# Altium footprint library 0.PCB1.PcbLib: 62 footprints (part 1 of 4)
Each footprint in its own frame and in the unit in brackets; x right, y up, seen from the top. Pads: shape width x height; smd on the part's side, far side on the other; paste and mask are expansions set on the pad; w line width, h text height; cw(c..) or ccw(c..) is an arc to the next point about the centre after c.
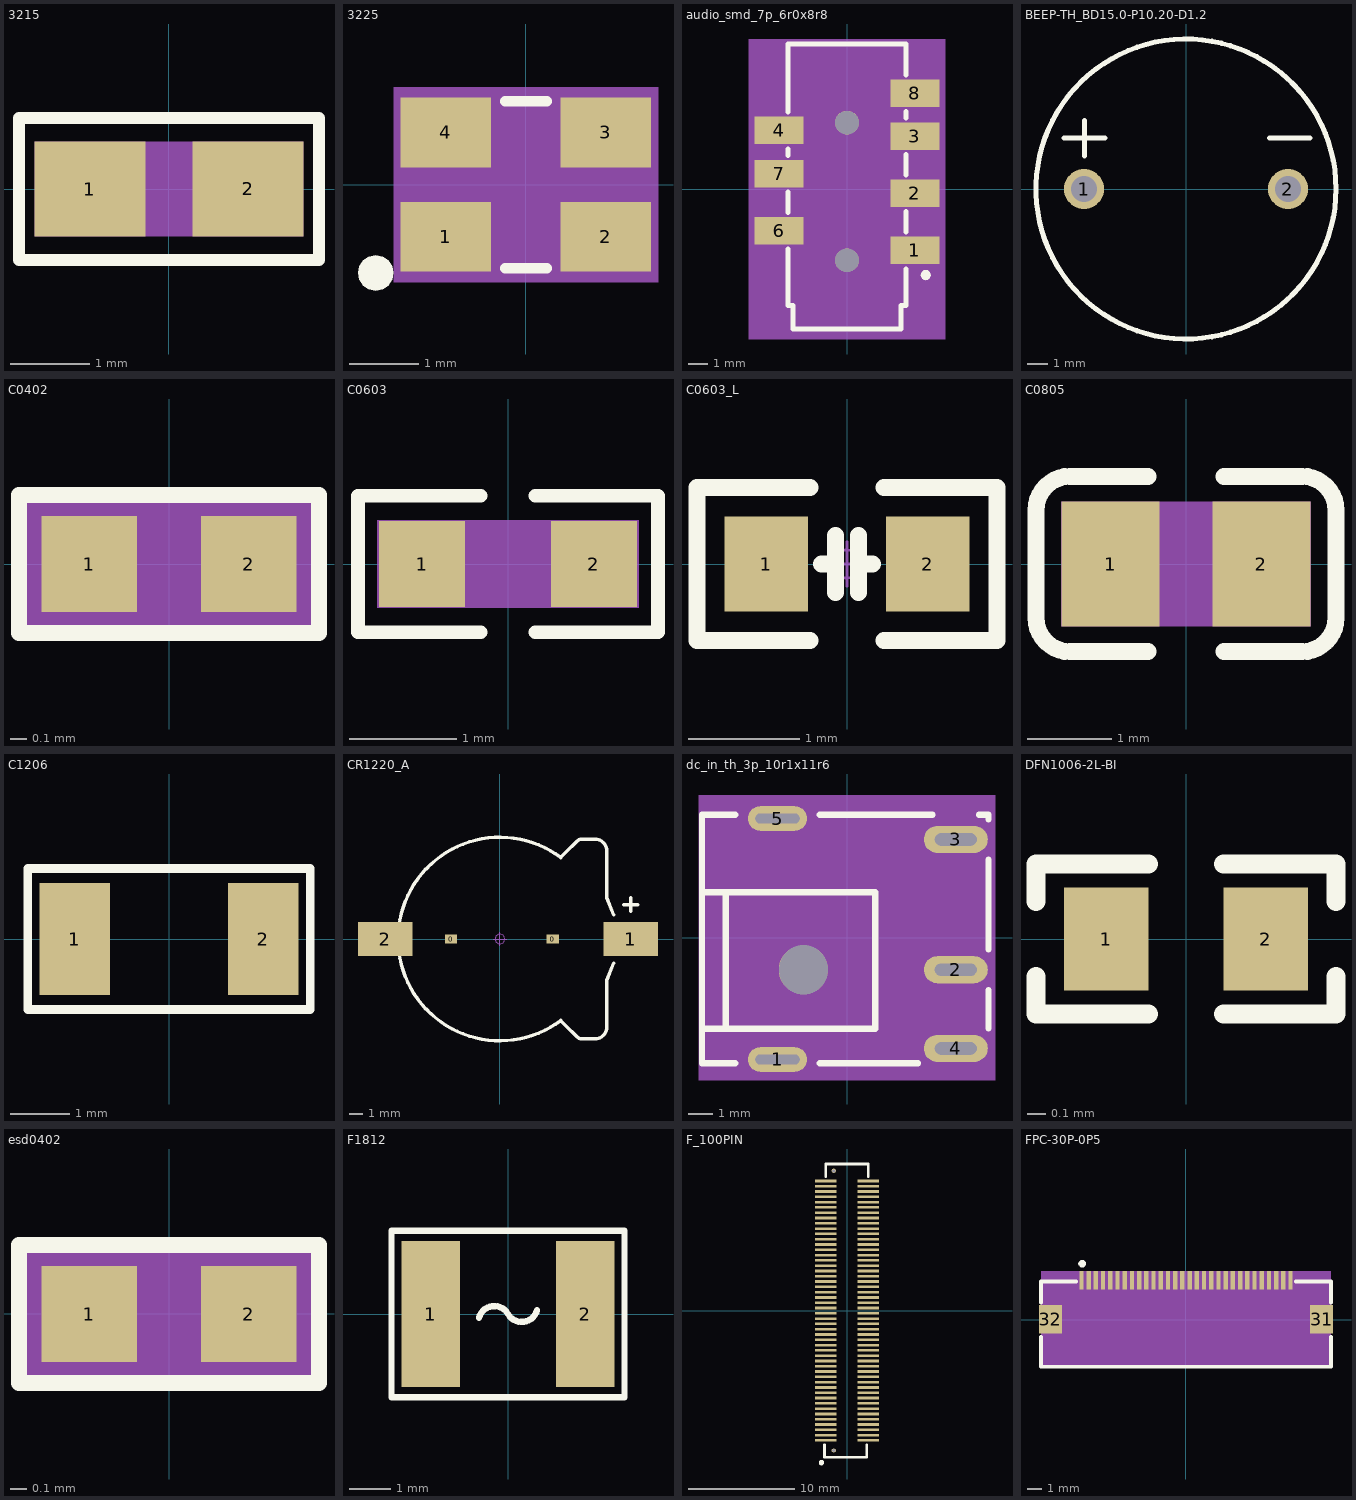
[diagram p0: the footprints below, top view; thin cyan lines are the x and y axes]

## 3215 [mm]
pads (2):
  rect 1.4x1.2 smd: 1(-1.001,0) 2(1.001,0)
Top Overlay:
  lines w0.15: -1.9,-0.899 1.9,-0.899 1.9,0.899 -1.9,0.899 -1.9,-0.899
Top 3D Body:
  region: -1.699,-0.599 1.699,-0.599 1.699,0.599 -1.699,0.599
3D body: height 3.81, standoff 0, extent -1.699,-0.599 1.699,0.599

## 3225 [mm]
pads (4):
  rect 1.3x1 smd: 1(-1.15,-0.75) 2(1.15,-0.75) 3(1.15,0.75) 4(-1.15,0.75)
Top Overlay:
  dashed: -2.159,-1.015 -2.257,-1.035 -2.339,-1.09 -2.394,-1.172 -2.414,-1.27 -2.394,-1.368 -2.376,-1.395 -2.339,-1.45 -2.257,-1.505 -2.159,-1.525 -2.061,-1.505 -1.979,-1.45 -1.942,-1.395 -1.924,-1.368 -1.904,-1.27 -1.924,-1.172 -1.979,-1.09 -2.061,-1.035
  lines w0.15: -0.3,-1.2 0.3,-1.2 ; -0.3,1.2 0.3,1.2
Top 3D Body:
  region: -1.9,1.4 -1.9,-1.4 1.9,-1.4 1.9,1.4
Top Assembly:
  lines w0.15: -1.6,-1.25 -1.6,1.25 1.6,1.25 1.6,-1.25 -1.6,-1.25
3D body: height 3.81, standoff 0, extent -1.9,-1.4 1.9,1.4

## audio_smd_7p_6r0x8r8 [mm]
pads (9):
  rect 2.5x1.4 smd: 1(3.45,-3.125) 2(3.45,-0.225) 3(3.45,2.675) 4(-3.45,2.975) 6(-3.45,-2.125) 7(-3.45,0.775) 8(3.45,4.875)
  round 1.2 hole 1.2 unplated: ""(0,-3.625) ""(0,3.375)
Top Overlay:
  dashed: 3.745,-4.375 3.765,-4.473 3.82,-4.555 3.902,-4.61 4,-4.63 4.098,-4.61 4.125,-4.592 4.18,-4.555 4.235,-4.473 4.255,-4.375 4.235,-4.277 4.18,-4.195 4.125,-4.158 4.098,-4.14 4,-4.12 3.902,-4.14 3.82,-4.195 3.765,-4.277
  lines w0.254: -3,-3.056 -3,-5.025 -3,-4.975 -3,-5.925 -2.75,-5.925 -2.75,-7.125 2.75,-7.125 2.75,-5.925 3,-5.925 3,-4.056 ; -3,-1.194 -3,-0.156 ; -3,1.706 -3,2.044 ; -3,3.906 -3,7.375 3,7.375 3,5.806 ; 3,-2.194 3,-1.156 ; 3,0.706 3,1.744 ; 3,3.606 3,3.944
Top 3D Body:
  region: -5,7.625 -5,-7.625 5,-7.625 5,7.625
3D body: height 3.81, standoff 0, extent -5,-7.625 5,7.625

## BEEP-TH_BD15.0-P10.20-D1.2 [mm]
pads (2):
  round 2 hole 1.3 paste+0 mask+0.051: 1(-5.1,0) 2(5.1,0)
Top Overlay:
  circle w0.254: c0,0 r7.5
  lines w0.254: -6.096,2.54 -4.064,2.54 ; -5.08,1.651 -5.08,3.429 ; 4.165,2.54 6.197,2.54

## C0402 [mm]
pads (2):
  rect 0.599x0.599 smd: 1(-0.5,0) 2(0.5,0)
Top Overlay:
  lines w0.102: -0.94,-0.432 -0.94,0.432 0.94,0.432 0.94,-0.432 -0.94,-0.432
Top 3D Body:
  region: 0.94,0.432 0.94,-0.432 -0.94,-0.432 -0.94,0.432
Top Assembly:
  dashed: -0.94,-0.432 -0.94,0.432 0.94,0.432 0.94,-0.432
3D body: height 3.81, standoff 0, extent -0.94,-0.432 0.94,0.432

## C0603 [mil]
pads (2):
  rect 31.5x31.5 smd: 1(-31.5,0) 2(31.5,0)
Top Overlay:
  lines w5: -10,-25 -55,-25 -55,25 -10,25 ; 10,-25 55,-25 55,25 10,25
Top 3D Body:
  region: -48,16 48,16 48,-16 -48,-16
3D body: height 150, standoff 0, extent -48,-16 48,16

## C0603_L [mm]
pads (2):
  rect 0.75x0.85 smd: 1(-0.725,0) 2(0.725,0)
Top Overlay:
  lines w0.152: -0.33,-0.686 -1.346,-0.686 -1.346,0.686 -0.33,0.686 ; -0.229,0 -0.102,0 ; -0.102,-0.254 -0.102,0.254 ; 0.102,-0.254 0.102,0.254 ; 0.102,0 0.229,0 ; 0.33,-0.686 1.346,-0.686 1.346,0.686 0.33,0.686
Mechanical 15:
  circle w0.025: c0,0 r0.127
  lines w0.025: -0.2,0 0.2,0 ; 0,-0.2 0,0.2
3D body "C0603H08-2S.stp": height 0.8, standoff 0, extent -0.8,-0.4 0.8,0.4

## C0805 [mm]
pads (2):
  rect 1.16x1.47 smd: 1(-0.89,0) 2(0.89,0)
Top Overlay:
  lines w0.2: -0.45,-1.035 -1.37,-1.035 cw(c-1.37,-0.635) -1.77,-0.635 -1.77,0.635 cw(c-1.37,0.635) -1.37,1.035 -0.45,1.035 ; 0.45,-1.035 1.37,-1.035 ccw(c1.37,-0.635) 1.77,-0.635 1.77,0.635 ccw(c1.37,0.635) 1.37,1.035 0.45,1.035
Top 3D Body:
  region: -1.47,-0.735 1.47,-0.735 1.47,0.735 -1.47,0.735
3D body: height 3.81, standoff 0, extent -1.47,-0.735 1.47,0.735

## C1206 [mm]
pads (2):
  rect 1.2x1.9 smd: 1(-1.6,0) 2(1.6,0)
Top Overlay:
  lines w0.15: -2.4,-1.2 -2.4,1.2 2.4,1.2 2.4,-1.2 0.6,-1.2 -2.4,-1.2
Top 3D Body:
  lines w0.025: -2.4,-1.2 2.4,-1.2 2.4,1.2 -2.4,1.2 -2.4,-1.2
Top Assembly:
  lines w0.025: -2.4,-1.2 2.4,-1.2 2.4,1.2 -2.4,1.2 -2.4,-1.2

## CR1220_A [mm]
pads (4):
  rect 0.9x0.7 smd: 0(-3.6,0) 0(3.9,0)
  rect 4x2.5 smd: 1(9.652,0) 2(-8.458,0)
Top Overlay:
  lines w0.254: 4.5,-6 cw(c0,0) 4.5,6 ; 4.572,-6.096 4.826,-6.35 5.662,-7.186 ccw(c6.096,-6.753) 6.096,-7.366 7.007,-7.366 ccw(c7.007,-6.499) 7.874,-6.499 7.874,-3.048 8.382,-1.778 ; 4.572,6.096 4.826,6.35 5.662,7.186 cw(c6.096,6.753) 6.096,7.366 7.007,7.366 cw(c7.007,6.499) 7.874,6.499 7.874,3.048 8.382,1.778 ; 9.144,2.54 10.16,2.54 ; 9.652,2.032 9.652,3.048
Mechanical 15:
  circle w0.05: c0,0 r0.35
  lines w0.05: -0.5,0 0.5,0 ; 0,-0.5 0,0.5
3D body "CR1220_A.STEP": height 4.05, standoff -0.85, extent -9.416,-7.45 10.34,7.45

## dc_in_th_3p_10r1x11r6 [mil]
pads (6):
  oval 94.5x39.4 / inner round 60 / far side oval 94.5x39.4 hole 70.9 slot 15.7 at 90 deg: 1(-111.25,-194.9) 5(-111.25,190.9)
  oval 102.4x43.3 hole 66.9 slot 19.7 at 90 deg: 2(174.25,-51.2) 3(174.25,157.4)
  oval 102.4x43.3 / inner round 60 / far side oval 102.4x43.3 hole 66.9 slot 19.7 at 90 deg: 4(174.25,-177.2)
  round 78.7 hole 78.7 unplated: ""(-69.85,-51.2)
Top Overlay:
  lines w10: -232.25,-145.7 45.25,-145.7 45.25,72.8 -222.45,72.8 -232.25,72.8 ; -193.95,-145.7 -193.95,72.8 ; -178.95,-200.8 -232.25,-200.8 -232.25,196.8 -178.95,196.8 ; -43.45,-200.8 113.65,-200.8 ; -43.45,196.8 136.95,196.8 ; 211.45,196.8 226.35,196.8 226.35,189.7 ; 226.35,-145 226.35,-83.5 ; 226.35,-19 226.35,125.2
Top 3D Body:
  region: -237.25,-228.4 237.25,-228.4 237.25,228.4 -237.25,228.4
Mechanical 23:
  dashed: -232.25,-141.8 41.35,-141.8 41.35,68.9 -232.25,68.9 -232.25,78.7 51.15,78.7 51.15,-151.6 -232.25,-151.6
3D body: height 150, standoff 0, extent -237.25,-228.4 237.25,228.4

## DFN1006-2L-BI [mm]
pads (2):
  rect 0.45x0.55 smd paste+0 mask+0.051: 1(-0.425,0) 2(0.425,0)
Top Overlay:
  lines w0.102: -0.8,-0.2 -0.8,-0.4 -0.2,-0.4 ; -0.8,0.2 -0.8,0.4 -0.2,0.4 ; 0.2,-0.4 0.8,-0.4 0.8,-0.2 ; 0.2,0.4 0.8,0.4 0.8,0.2

## esd0402 [mm]
pads (2):
  rect 0.599x0.599 smd: 1(-0.5,0) 2(0.5,0)
Top Overlay:
  lines w0.102: -0.94,-0.432 0.94,-0.432 0.94,0.432 -0.94,0.432 -0.94,-0.432
Top 3D Body:
  region: 0.94,0.432 0.94,-0.432 -0.94,-0.432 -0.94,0.432
Top Assembly:
  dashed: -0.94,-0.432 -0.94,0.432 0.94,0.432 0.94,-0.432
3D body: height 3.81, standoff 0, extent -0.94,-0.432 0.94,0.432

## F1812 [mm]
pads (2):
  rect 1.407x3.499 smd: 1(-1.853,0) 2(1.853,0)
Top Overlay:
  lines w0.152: -0.698,-0.092 cw(c-0.33,-0.191) 0,0 ccw(c0.33,0.191) 0.698,0.092 ; -2.8,-2 -2.8,2 2.8,2 2.8,-2 -2.8,-2
3D body "FUSE1812-2.stp": height 1.04, standoff 0, extent -2.25,-1.6 2.25,1.6

## F_100PIN [mm]
pads (100):
  rect 2x0.25 smd: 1(-2,-12.25) 2(-2,-11.75) 3(-2,-11.25) 4(-2,-10.75) 5(-2,-10.25) 6(-2,-9.75) 7(-2,-9.25) 8(-2,-8.75) 9(-2,-8.25) 10(-2,-7.75) 11(-2,-7.25) 12(-2,-6.75) 13(-2,-6.25) 14(-2,-5.75) 15(-2,-5.25) 16(-2,-4.75) 17(-2,-4.25) 18(-2,-3.75) 19(-2,-3.25) 20(-2,-2.75) 21(-2,-2.25) 22(-2,-1.75) 23(-2,-1.25) 24(-2,-0.75) 25(-2,-0.25) 26(-2,0.25) 27(-2,0.75) 28(-2,1.25) 29(-2,1.75) 30(-2,2.25) 31(-2,2.75) 32(-2,3.25) 33(-2,3.75) 34(-2,4.25) 35(-2,4.75) 36(-2,5.25) 37(-2,5.75) 38(-2,6.25) 39(-2,6.75) 40(-2,7.25) 41(-2,7.75) 42(-2,8.25) 43(-2,8.75) 44(-2,9.25) 45(-2,9.75) 46(-2,10.25) 47(-2,10.75) 48(-2,11.25) 49(-2,11.75) 50(-2,12.25) 51(2,12.25) 52(2,11.75) 53(2,11.25) 54(2,10.75) 55(2,10.25) 56(2,9.75) 57(2,9.25) 58(2,8.75) 59(2,8.25) 60(2,7.75) 61(2,7.25) 62(2,6.75) 63(2,6.25) 64(2,5.75) 65(2,5.25) 66(2,4.75) 67(2,4.25) 68(2,3.75) 69(2,3.25) 70(2,2.75) 71(2,2.25) 72(2,1.75) 73(2,1.25) 74(2,0.75) 75(2,0.25) 76(2,-0.25) 77(2,-0.75) 78(2,-1.25) 79(2,-1.75) 80(2,-2.25) 81(2,-2.75) 82(2,-3.25) 83(2,-3.75) 84(2,-4.25) 85(2,-4.75) 86(2,-5.25) 87(2,-5.75) 88(2,-6.25) 89(2,-6.75) 90(2,-7.25) 91(2,-7.75) 92(2,-8.25) 93(2,-8.75) 94(2,-9.25) 95(2,-9.75) 96(2,-10.25) 97(2,-10.75) 98(2,-11.25) 99(2,-11.75) 100(2,-12.25)
via -1.25,13.2 diameter 0.41 hole 0.3
via -1.25,-13.2 diameter 0.41 hole 0.3
Top Overlay:
  circle w0.254: c-2.413,-14.351 r0.127
  lines w0.254: -2.127,-12.65 -2.127,-13.85 1.873,-13.85 1.873,-12.65 ; -2,12.65 -2,13.85 2,13.85 2,12.65

## FPC-30P-0P5 [mm]
pads (32):
  rect 0.3x1.3 smd: 1(-7.25,2.733) 2(-6.75,2.733) 3(-6.25,2.733) 4(-5.75,2.733) 5(-5.25,2.733) 6(-4.75,2.733) 7(-4.25,2.733) 8(-3.75,2.733) 9(-3.25,2.733) 10(-2.75,2.733) 11(-2.25,2.733) 12(-1.75,2.733) 13(-1.25,2.733) 14(-0.75,2.733) 15(-0.25,2.733) 16(0.25,2.733) 17(0.75,2.733) 18(1.25,2.733) 19(1.75,2.733) 20(2.25,2.733) 21(2.75,2.733) 22(3.25,2.733) 23(3.75,2.733) 24(4.25,2.733) 25(4.75,2.733) 26(5.25,2.733) 27(5.75,2.733) 28(6.25,2.733) 29(6.75,2.733) 30(7.25,2.733)
  rect 1.6x2 smd: 31(9.4,0.032) 32(-9.4,0.032)
Top Overlay:
  dashed: -7.2,4.137 -7.297,4.118 -7.38,4.063 -7.435,3.98 -7.455,3.882 -7.435,3.785 -7.417,3.757 -7.38,3.702 -7.297,3.647 -7.2,3.628 -7.102,3.647 -7.02,3.702 -6.983,3.757 -6.964,3.785 -6.945,3.882 -6.964,3.98 -7.02,4.063 -7.102,4.118
  lines w0.254: -10.05,-1.199 -10.05,-3.257 ; -10.05,1.164 -10.05,2.653 -7.631,2.653 ; 7.631,2.652 10.05,2.652 10.05,1.164 ; 10.05,-1.199 10.05,-3.268 -10.04,-3.268 -10.05,-3.257 ; -10.05,-3.257 -10.05,-3.257
Top 3D Body:
  region: 10.052,-3.35 10.052,3.35 -10.052,3.35 -10.052,-3.35
3D body: height 3.81, standoff 0, extent -10.052,-3.35 10.052,3.35